# EAGLE library part CONN_EDGE_SO_DIMM_260P_RK1 (library GPLIB_CONN)
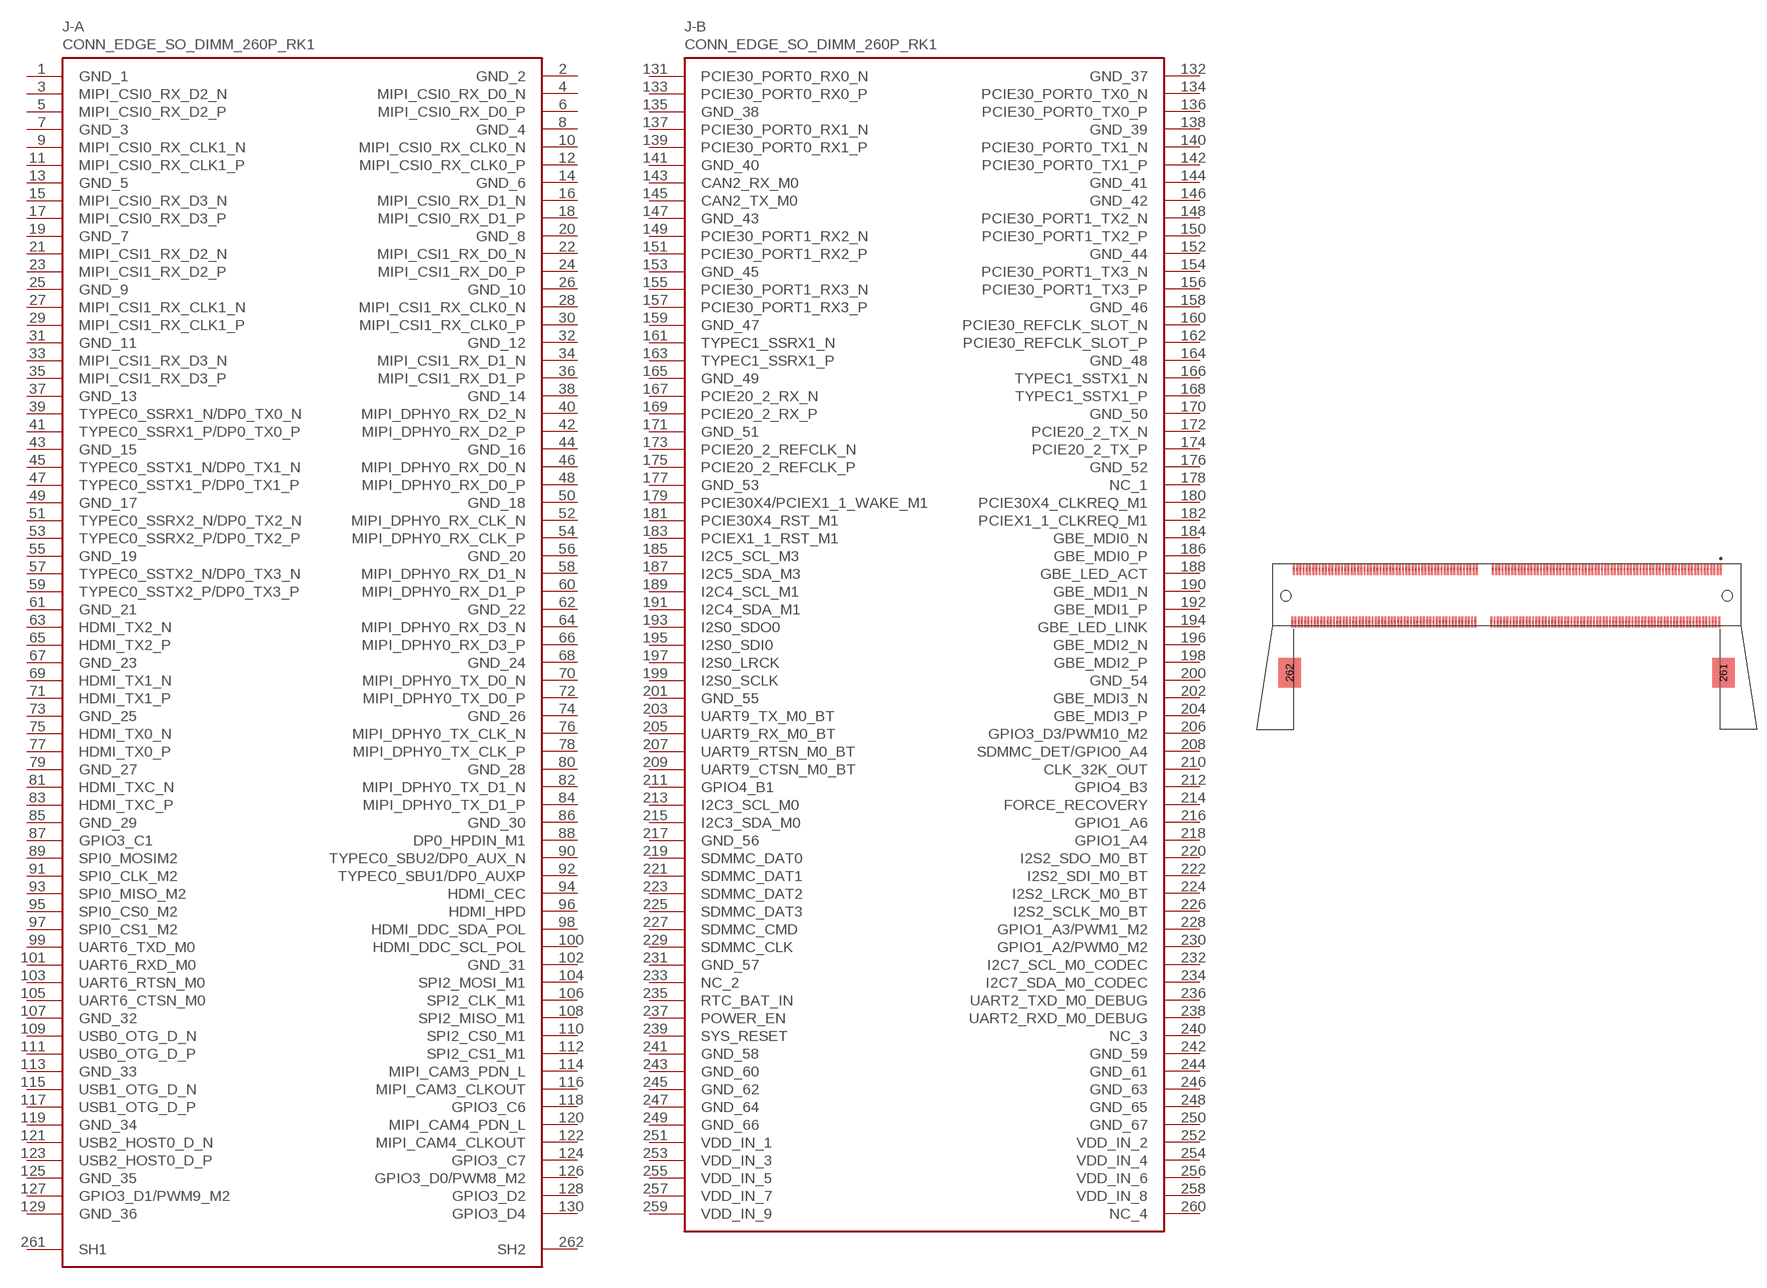
[diagram p27: symbol with the pads of CONN_SO_DIMM_260P_0.5MM_SM_RA_TE_2309409_2; footprint CONN_SO_DIMM_260P_0.5MM_SM_RA_TE_2309409_2]

Designator prefix J; gates -A=CONN_2X65_SH2_RK1 -B=CONN_2X65_131-260_RK1

## CONN_EDGE_SO_DIMM_260P_RK1_0.5MM_SM_RA_TE_2309409_2  [CONN_SO_DIMM_260P_0.5MM_SM_RA_TE_2309409_2]
1  -A:GND_1  pas
2  -A:GND_2  pas
3  -A:MIPI_CSI0_RX_D2_N  pas
4  -A:MIPI_CSI0_RX_D0_N  pas
5  -A:MIPI_CSI0_RX_D2_P  pas
6  -A:MIPI_CSI0_RX_D0_P  pas
7  -A:GND_3  pas
8  -A:GND_4  pas
9  -A:MIPI_CSI0_RX_CLK1_N  pas
10  -A:MIPI_CSI0_RX_CLK0_N  pas
11  -A:MIPI_CSI0_RX_CLK1_P  pas
12  -A:MIPI_CSI0_RX_CLK0_P  pas
13  -A:GND_5  pas
14  -A:GND_6  pas
15  -A:MIPI_CSI0_RX_D3_N  pas
16  -A:MIPI_CSI0_RX_D1_N  pas
17  -A:MIPI_CSI0_RX_D3_P  pas
18  -A:MIPI_CSI0_RX_D1_P  pas
19  -A:GND_7  pas
20  -A:GND_8  pas
21  -A:MIPI_CSI1_RX_D2_N  pas
22  -A:MIPI_CSI1_RX_D0_N  pas
23  -A:MIPI_CSI1_RX_D2_P  pas
24  -A:MIPI_CSI1_RX_D0_P  pas
25  -A:GND_9  pas
26  -A:GND_10  pas
27  -A:MIPI_CSI1_RX_CLK1_N  pas
28  -A:MIPI_CSI1_RX_CLK0_N  pas
29  -A:MIPI_CSI1_RX_CLK1_P  pas
30  -A:MIPI_CSI1_RX_CLK0_P  pas
31  -A:GND_11  pas
32  -A:GND_12  pas
33  -A:MIPI_CSI1_RX_D3_N  pas
34  -A:MIPI_CSI1_RX_D1_N  pas
35  -A:MIPI_CSI1_RX_D3_P  pas
36  -A:MIPI_CSI1_RX_D1_P  pas
37  -A:GND_13  pas
38  -A:GND_14  pas
39  -A:TYPEC0_SSRX1_N/DP0_TX0_N  pas
40  -A:MIPI_DPHY0_RX_D2_N  pas
41  -A:TYPEC0_SSRX1_P/DP0_TX0_P  pas
42  -A:MIPI_DPHY0_RX_D2_P  pas
43  -A:GND_15  pas
44  -A:GND_16  pas
45  -A:TYPEC0_SSTX1_N/DP0_TX1_N  pas
46  -A:MIPI_DPHY0_RX_D0_N  pas
47  -A:TYPEC0_SSTX1_P/DP0_TX1_P  pas
48  -A:MIPI_DPHY0_RX_D0_P  pas
49  -A:GND_17  pas
50  -A:GND_18  pas
51  -A:TYPEC0_SSRX2_N/DP0_TX2_N  pas
52  -A:MIPI_DPHY0_RX_CLK_N  pas
53  -A:TYPEC0_SSRX2_P/DP0_TX2_P  pas
54  -A:MIPI_DPHY0_RX_CLK_P  pas
55  -A:GND_19  pas
56  -A:GND_20  pas
57  -A:TYPEC0_SSTX2_N/DP0_TX3_N  pas
58  -A:MIPI_DPHY0_RX_D1_N  pas
59  -A:TYPEC0_SSTX2_P/DP0_TX3_P  pas
60  -A:MIPI_DPHY0_RX_D1_P  pas
61  -A:GND_21  pas
62  -A:GND_22  pas
63  -A:HDMI_TX2_N  pas
64  -A:MIPI_DPHY0_RX_D3_N  pas
65  -A:HDMI_TX2_P  pas
66  -A:MIPI_DPHY0_RX_D3_P  pas
67  -A:GND_23  pas
68  -A:GND_24  pas
69  -A:HDMI_TX1_N  pas
70  -A:MIPI_DPHY0_TX_D0_N  pas
71  -A:HDMI_TX1_P  pas
72  -A:MIPI_DPHY0_TX_D0_P  pas
73  -A:GND_25  pas
74  -A:GND_26  pas
75  -A:HDMI_TX0_N  pas
76  -A:MIPI_DPHY0_TX_CLK_N  pas
77  -A:HDMI_TX0_P  pas
78  -A:MIPI_DPHY0_TX_CLK_P  pas
79  -A:GND_27  pas
80  -A:GND_28  pas
81  -A:HDMI_TXC_N  pas
82  -A:MIPI_DPHY0_TX_D1_N  pas
83  -A:HDMI_TXC_P  pas
84  -A:MIPI_DPHY0_TX_D1_P  pas
85  -A:GND_29  pas
86  -A:GND_30  pas
87  -A:GPIO3_C1  pas
88  -A:DP0_HPDIN_M1  pas
89  -A:SPI0_MOSIM2  pas
90  -A:TYPEC0_SBU2/DP0_AUX_N  pas
91  -A:SPI0_CLK_M2  pas
92  -A:TYPEC0_SBU1/DP0_AUXP  pas
93  -A:SPI0_MISO_M2  pas
94  -A:HDMI_CEC  pas
95  -A:SPI0_CS0_M2  pas
96  -A:HDMI_HPD  pas
97  -A:SPI0_CS1_M2  pas
98  -A:HDMI_DDC_SDA_POL  pas
99  -A:UART6_TXD_M0  pas
100  -A:HDMI_DDC_SCL_POL  pas
101  -A:UART6_RXD_M0  pas
102  -A:GND_31  pas
103  -A:UART6_RTSN_M0  pas
104  -A:SPI2_MOSI_M1  pas
105  -A:UART6_CTSN_M0  pas
106  -A:SPI2_CLK_M1  pas
107  -A:GND_32  pas
108  -A:SPI2_MISO_M1  pas
109  -A:USB0_OTG_D_N  pas
110  -A:SPI2_CS0_M1  pas
111  -A:USB0_OTG_D_P  pas
112  -A:SPI2_CS1_M1  pas
113  -A:GND_33  pas
114  -A:MIPI_CAM3_PDN_L  pas
115  -A:USB1_OTG_D_N  pas
116  -A:MIPI_CAM3_CLKOUT  pas
117  -A:USB1_OTG_D_P  pas
118  -A:GPIO3_C6  pas
119  -A:GND_34  pas
120  -A:MIPI_CAM4_PDN_L  pas
121  -A:USB2_HOST0_D_N  pas
122  -A:MIPI_CAM4_CLKOUT  pas
123  -A:USB2_HOST0_D_P  pas
124  -A:GPIO3_C7  pas
125  -A:GND_35  pas
126  -A:GPIO3_D0/PWM8_M2  pas
127  -A:GPIO3_D1/PWM9_M2  pas
128  -A:GPIO3_D2  pas
129  -A:GND_36  pas
130  -A:GPIO3_D4  pas
131  -B:PCIE30_PORT0_RX0_N  pas
132  -B:GND_37  pas
133  -B:PCIE30_PORT0_RX0_P  pas
134  -B:PCIE30_PORT0_TX0_N  pas
135  -B:GND_38  pas
136  -B:PCIE30_PORT0_TX0_P  pas
137  -B:PCIE30_PORT0_RX1_N  pas
138  -B:GND_39  pas
139  -B:PCIE30_PORT0_RX1_P  pas
140  -B:PCIE30_PORT0_TX1_N  pas
141  -B:GND_40  pas
142  -B:PCIE30_PORT0_TX1_P  pas
143  -B:CAN2_RX_M0  pas
144  -B:GND_41  pas
145  -B:CAN2_TX_M0  pas
146  -B:GND_42  pas
147  -B:GND_43  pas
148  -B:PCIE30_PORT1_TX2_N  pas
149  -B:PCIE30_PORT1_RX2_N  pas
150  -B:PCIE30_PORT1_TX2_P  pas
151  -B:PCIE30_PORT1_RX2_P  pas
152  -B:GND_44  pas
153  -B:GND_45  pas
154  -B:PCIE30_PORT1_TX3_N  pas
155  -B:PCIE30_PORT1_RX3_N  pas
156  -B:PCIE30_PORT1_TX3_P  pas
157  -B:PCIE30_PORT1_RX3_P  pas
158  -B:GND_46  pas
159  -B:GND_47  pas
160  -B:PCIE30_REFCLK_SLOT_N  pas
161  -B:TYPEC1_SSRX1_N  pas
162  -B:PCIE30_REFCLK_SLOT_P  pas
163  -B:TYPEC1_SSRX1_P  pas
164  -B:GND_48  pas
165  -B:GND_49  pas
166  -B:TYPEC1_SSTX1_N  pas
167  -B:PCIE20_2_RX_N  pas
168  -B:TYPEC1_SSTX1_P  pas
169  -B:PCIE20_2_RX_P  pas
170  -B:GND_50  pas
171  -B:GND_51  pas
172  -B:PCIE20_2_TX_N  pas
173  -B:PCIE20_2_REFCLK_N  pas
174  -B:PCIE20_2_TX_P  pas
175  -B:PCIE20_2_REFCLK_P  pas
176  -B:GND_52  pas
177  -B:GND_53  pas
178  -B:NC_1  nc
179  -B:PCIE30X4/PCIEX1_1_WAKE_M1  pas
180  -B:PCIE30X4_CLKREQ_M1  pas
181  -B:PCIE30X4_RST_M1  pas
182  -B:PCIEX1_1_CLKREQ_M1  pas
183  -B:PCIEX1_1_RST_M1  pas
184  -B:GBE_MDI0_N  pas
185  -B:I2C5_SCL_M3  pas
186  -B:GBE_MDI0_P  pas
187  -B:I2C5_SDA_M3  pas
188  -B:GBE_LED_ACT  pas
189  -B:I2C4_SCL_M1  pas
190  -B:GBE_MDI1_N  pas
191  -B:I2C4_SDA_M1  pas
192  -B:GBE_MDI1_P  pas
193  -B:I2S0_SDO0  pas
194  -B:GBE_LED_LINK  pas
195  -B:I2S0_SDI0  pas
196  -B:GBE_MDI2_N  pas
197  -B:I2S0_LRCK  pas
198  -B:GBE_MDI2_P  pas
199  -B:I2S0_SCLK  pas
200  -B:GND_54  pas
201  -B:GND_55  pas
202  -B:GBE_MDI3_N  pas
203  -B:UART9_TX_M0_BT  pas
204  -B:GBE_MDI3_P  pas
205  -B:UART9_RX_M0_BT  pas
206  -B:GPIO3_D3/PWM10_M2  pas
207  -B:UART9_RTSN_M0_BT  pas
208  -B:SDMMC_DET/GPIO0_A4  pas
209  -B:UART9_CTSN_M0_BT  pas
210  -B:CLK_32K_OUT  pas
211  -B:GPIO4_B1  pas
212  -B:GPIO4_B3  pas
213  -B:I2C3_SCL_M0  pas
214  -B:FORCE_RECOVERY  pas
215  -B:I2C3_SDA_M0  pas
216  -B:GPIO1_A6  pas
217  -B:GND_56  pas
218  -B:GPIO1_A4  pas
219  -B:SDMMC_DAT0  pas
220  -B:I2S2_SDO_M0_BT  pas
221  -B:SDMMC_DAT1  pas
222  -B:I2S2_SDI_M0_BT  pas
223  -B:SDMMC_DAT2  pas
224  -B:I2S2_LRCK_M0_BT  pas
225  -B:SDMMC_DAT3  pas
226  -B:I2S2_SCLK_M0_BT  pas
227  -B:SDMMC_CMD  pas
228  -B:GPIO1_A3/PWM1_M2  pas
229  -B:SDMMC_CLK  pas
230  -B:GPIO1_A2/PWM0_M2  pas
231  -B:GND_57  pas
232  -B:I2C7_SCL_M0_CODEC  pas
233  -B:NC_2  nc
234  -B:I2C7_SDA_M0_CODEC  pas
235  -B:RTC_BAT_IN  pas
236  -B:UART2_TXD_M0_DEBUG  pas
237  -B:POWER_EN  pas
238  -B:UART2_RXD_M0_DEBUG  pas
239  -B:SYS_RESET  pas
240  -B:NC_3  nc
241  -B:GND_58  pas
242  -B:GND_59  pas
243  -B:GND_60  pas
244  -B:GND_61  pas
245  -B:GND_62  pas
246  -B:GND_63  pas
247  -B:GND_64  pas
248  -B:GND_65  pas
249  -B:GND_66  pas
250  -B:GND_67  pas
251  -B:VDD_IN_1  pas
252  -B:VDD_IN_2  pas
253  -B:VDD_IN_3  pas
254  -B:VDD_IN_4  pas
255  -B:VDD_IN_5  pas
256  -B:VDD_IN_6  pas
257  -B:VDD_IN_7  pas
258  -B:VDD_IN_8  pas
259  -B:VDD_IN_9  pas
260  -B:NC_4  nc
261  -A:SH1  pas
262  -A:SH2  pas

## Footprint CONN_SO_DIMM_260P_0.5MM_SM_RA_TE_2309409_2 (pad centres in mm)
smd 0.3 x 1.75: 1 33.375,8.05; 2 33.125,-0.15; 3 32.875,8.05; 4 32.625,-0.15; 5 32.375,8.05; 6 32.125,-0.15; 7 31.875,8.05; 8 31.625,-0.15; 9 31.375,8.05; 10 31.125,-0.15; 11 30.875,8.05; 12 30.625,-0.15; 13 30.375,8.05; 14 30.125,-0.15; 15 29.875,8.05; 16 29.625,-0.15; 17 29.375,8.05; 18 29.125,-0.15; 19 28.875,8.05; 20 28.625,-0.15; 21 28.375,8.05; 22 28.125,-0.15; 23 27.875,8.05; 24 27.625,-0.15; 25 27.375,8.05; 26 27.125,-0.15; 27 26.875,8.05; 28 26.625,-0.15; 29 26.375,8.05; 30 26.125,-0.15; 31 25.875,8.05; 32 25.625,-0.15; 33 25.375,8.05; 34 25.125,-0.15; 35 24.875,8.05; 36 24.625,-0.15; 37 24.375,8.05; 38 24.125,-0.15; 39 23.875,8.05; 40 23.625,-0.15; 41 23.375,8.05; 42 23.125,-0.15; 43 22.875,8.05; 44 22.625,-0.15; 45 22.375,8.05; 46 22.125,-0.15; 47 21.875,8.05; 48 21.625,-0.15; 49 21.375,8.05; 50 21.125,-0.15; 51 20.875,8.05; 52 20.625,-0.15; 53 20.375,8.05; 54 20.125,-0.15; 55 19.875,8.05; 56 19.625,-0.15; 57 19.375,8.05; 58 19.125,-0.15; 59 18.875,8.05; 60 18.625,-0.15; 61 18.375,8.05; 62 18.125,-0.15; 63 17.875,8.05; 64 17.625,-0.15; 65 17.375,8.05; 66 17.125,-0.15; 67 16.875,8.05; 68 16.625,-0.15; 69 16.375,8.05; 70 16.125,-0.15; 71 15.875,8.05; 72 15.625,-0.15; 73 15.375,8.05; 74 15.125,-0.15; 75 14.875,8.05; 76 14.625,-0.15; 77 14.375,8.05; 78 14.125,-0.15; 79 13.875,8.05; 80 13.625,-0.15; 81 13.375,8.05; 82 13.125,-0.15; 83 12.875,8.05; 84 12.625,-0.15; 85 12.375,8.05; 86 12.125,-0.15; 87 11.875,8.05; 88 11.625,-0.15; 89 11.375,8.05; 90 11.125,-0.15; 91 10.875,8.05; 92 10.625,-0.15; 93 10.375,8.05; 94 10.125,-0.15; 95 9.875,8.05; 96 9.625,-0.15; 97 9.375,8.05; 98 9.125,-0.15; 99 8.875,8.05; 100 8.625,-0.15; 101 8.375,8.05; 102 8.125,-0.15; 103 7.875,8.05; 104 7.625,-0.15; 105 7.375,8.05; 106 7.125,-0.15; 107 6.875,8.05; 108 6.625,-0.15; 109 6.375,8.05; 110 6.125,-0.15; 111 5.875,8.05; 112 5.625,-0.15; 113 5.375,8.05; 114 5.125,-0.15; 115 4.875,8.05; 116 4.625,-0.15; 117 4.375,8.05; 118 4.125,-0.15; 119 3.875,8.05; 120 3.625,-0.15; 121 3.375,8.05; 122 3.125,-0.15; 123 2.875,8.05; 124 2.625,-0.15; 125 2.375,8.05; 126 2.125,-0.15; 127 1.875,8.05; 128 1.625,-0.15; 129 1.375,8.05; 130 1.125,-0.15; 131 0.875,8.05; 132 0.625,-0.15; 133 0.375,8.05; 134 0.125,-0.15; 135 -0.125,8.05; 136 -0.375,-0.15; 137 -0.625,8.05; 138 -0.875,-0.15; 139 -1.125,8.05; 140 -1.375,-0.15; 141 -1.625,8.05; 142 -1.875,-0.15; 143 -2.125,8.05; 144 -2.375,-0.15; 145 -4.625,8.05; 146 -4.875,-0.15; 147 -5.125,8.05; 148 -5.375,-0.15; 149 -5.625,8.05; 150 -5.875,-0.15; 151 -6.125,8.05; 152 -6.375,-0.15; 153 -6.625,8.05; 154 -6.875,-0.15; 155 -7.125,8.05; 156 -7.375,-0.15; 157 -7.625,8.05; 158 -7.875,-0.15; 159 -8.125,8.05; 160 -8.375,-0.15; 161 -8.625,8.05; 162 -8.875,-0.15; 163 -9.125,8.05; 164 -9.375,-0.15; 165 -9.625,8.05; 166 -9.875,-0.15; 167 -10.125,8.05; 168 -10.375,-0.15; 169 -10.625,8.05; 170 -10.875,-0.15; 171 -11.125,8.05; 172 -11.375,-0.15; 173 -11.625,8.05; 174 -11.875,-0.15; 175 -12.125,8.05; 176 -12.375,-0.15; 177 -12.625,8.05; 178 -12.875,-0.15; 179 -13.125,8.05; 180 -13.375,-0.15; 181 -13.625,8.05; 182 -13.875,-0.15; 183 -14.125,8.05; 184 -14.375,-0.15; 185 -14.625,8.05; 186 -14.875,-0.15; 187 -15.125,8.05; 188 -15.375,-0.15; 189 -15.625,8.05; 190 -15.875,-0.15; 191 -16.125,8.05; 192 -16.375,-0.15; 193 -16.625,8.05; 194 -16.875,-0.15; 195 -17.125,8.05; 196 -17.375,-0.15; 197 -17.625,8.05; 198 -17.875,-0.15; 199 -18.125,8.05; 200 -18.375,-0.15; 201 -18.625,8.05; 202 -18.875,-0.15; 203 -19.125,8.05; 204 -19.375,-0.15; 205 -19.625,8.05; 206 -19.875,-0.15; 207 -20.125,8.05; 208 -20.375,-0.15; 209 -20.625,8.05; 210 -20.875,-0.15; 211 -21.125,8.05; 212 -21.375,-0.15; 213 -21.625,8.05; 214 -21.875,-0.15; 215 -22.125,8.05; 216 -22.375,-0.15; 217 -22.625,8.05; 218 -22.875,-0.15; 219 -23.125,8.05; 220 -23.375,-0.15; 221 -23.625,8.05; 222 -23.875,-0.15; 223 -24.125,8.05; 224 -24.375,-0.15; 225 -24.625,8.05; 226 -24.875,-0.15; 227 -25.125,8.05; 228 -25.375,-0.15; 229 -25.625,8.05; 230 -25.875,-0.15; 231 -26.125,8.05; 232 -26.375,-0.15; 233 -26.625,8.05; 234 -26.875,-0.15; 235 -27.125,8.05; 236 -27.375,-0.15; 237 -27.625,8.05; 238 -27.875,-0.15; 239 -28.125,8.05; 240 -28.375,-0.15; 241 -28.625,8.05; 242 -28.875,-0.15; 243 -29.125,8.05; 244 -29.375,-0.15; 245 -29.625,8.05; 246 -29.875,-0.15; 247 -30.125,8.05; 248 -30.375,-0.15; 249 -30.625,8.05; 250 -30.875,-0.15; 251 -31.125,8.05; 252 -31.375,-0.15; 253 -31.625,8.05; 254 -31.875,-0.15; 255 -32.125,8.05; 256 -32.375,-0.15; 257 -32.625,8.05; 258 -32.875,-0.15; 259 -33.125,8.05; 260 -33.375,-0.15
smd 3.5 x 4.6: 261 33.8,-8.05; 262 -33.8,-8.05
hole 1.6 at -34.4,3.95
hole 1.6 at 34.4,3.95